# EAGLE library part AD8426ACPZ-WP (library RoboJackets-ICs)
IC INST AMP 2 CIRCUIT 16LFCSP DigiKey <https://www.digikey.com/en/products/detail/analog-devices-inc/AD8426ACPZ-WP/2742222>
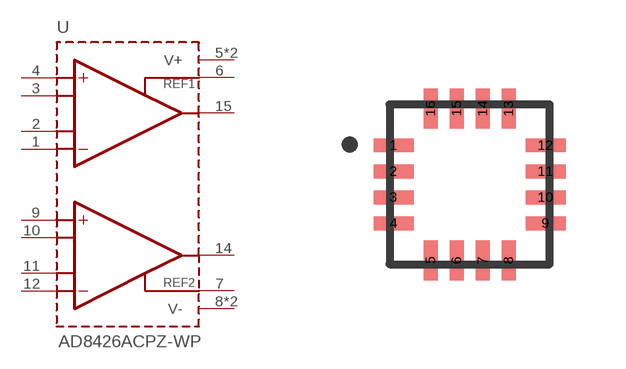
[diagram p38: symbol with the pads of 16LFCSP; footprint 16LFCSP]

Designator prefix U

## AD8426ACPZ-WP (DKPN: AD8426ACPZ-WP-ND)  [16LFCSP]
1  INA-  pas
2  RGA-  pas
3  RGA+  pas
4  INA+  pas
5  V+  pas
6  REFA  pas
7  REFB  pas
8  V-  pas
9  INB+  pas
10  RGB+  pas
11  RGB-  pas
12  INB-  pas
13  V-  pas
14  OUTB  pas
15  OUTA  pas
16  V+  pas

## Footprint 16LFCSP (pad centres in mm)
smd 1 x 0.35: 1 -1.9,0.975; 2 -1.9,0.325; 3 -1.9,-0.325; 4 -1.9,-0.975; 9 1.9,-0.975; 10 1.9,-0.325; 11 1.9,0.325; 12 1.9,0.975
smd 0.35 x 1: 5 -0.975,-1.9; 6 -0.325,-1.9; 7 0.325,-1.9; 8 0.975,-1.9; 13 0.975,1.9; 14 0.325,1.9; 15 -0.325,1.9; 16 -0.975,1.9